# Altium footprint library LM3102.PcbLib: 3 footprints
Each footprint in its own frame and in the unit in brackets; x right, y up, seen from the top. Pads: shape width x height; smd on the part's side, far side on the other; paste and mask are expansions set on the pad; w line width, h text height; cw(c..) or ccw(c..) is an arc to the next point about the centre after c.
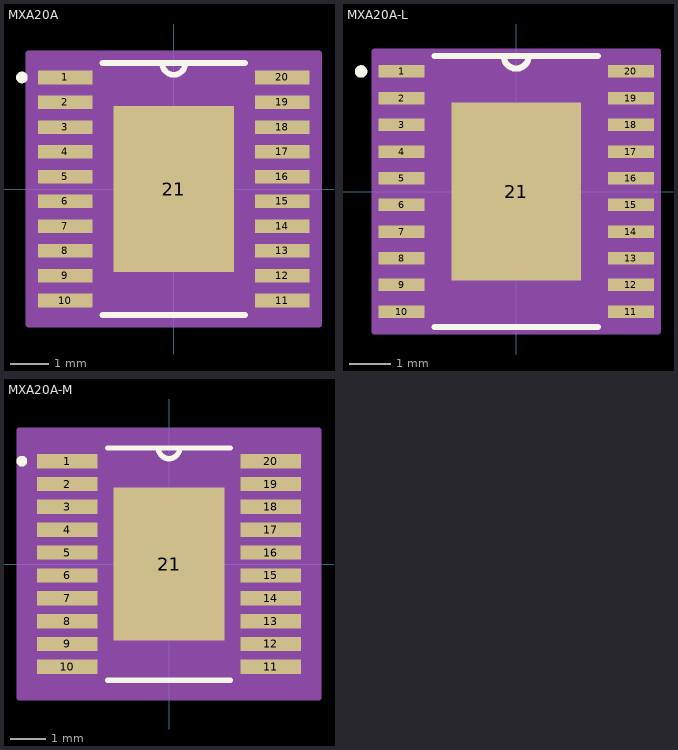
[diagram p0: the footprints below, top view; thin cyan lines are the x and y axes]

## MXA20A [mil]
pads (21):
  rect 56x14 smd: 1(-112,115.16) 2(-112,89.57) 3(-112,63.98) 4(-112,38.39) 5(-112,12.8) 6(-112,-12.8) 7(-112,-38.39) 8(-112,-63.98) 9(-112,-89.57) 10(-112,-115.16) 11(112,-115.16) 12(112,-89.57) 13(112,-63.98) 14(112,-38.39) 15(112,-12.8) 16(112,12.8) 17(112,38.39) 18(112,63.98) 19(112,89.57) 20(112,115.16)
  rect 124x171 smd: 21(0,0)
Top Overlay:
  circle w6: c-156.8,115.16 r3
  lines w6: -73.51,-130 73.51,-130 ; -73.51,130 73.51,130 ; -12,130 ccw(c0,130) 12,130
Mechanical 13:
  circle w0: c-156.8,115.16 r3
  lines w0: -12,130 ccw(c0,130) 12,130
Mechanical 15:
  region: 150,-140 -150,-140 -150,140 150,140
  lines w6: -150,-140 -150,140 150,140 150,-140 -150,-140
3D body: height 39.37, standoff 0, extent -126.39,-127.95 126.4,127.96

## MXA20A-L [mil]
pads (21):
  rect 44x12 smd: 1(-110,115.16) 2(-110,89.57) 3(-110,63.98) 4(-110,38.39) 5(-110,12.8) 6(-110,-12.8) 7(-110,-38.39) 8(-110,-63.98) 9(-110,-89.57) 10(-110,-115.16) 11(110,-115.16) 12(110,-89.57) 13(110,-63.98) 14(110,-38.39) 15(110,-12.8) 16(110,12.8) 17(110,38.39) 18(110,63.98) 19(110,89.57) 20(110,115.16)
  rect 124x171 smd: 21(0,0)
Top Overlay:
  circle w6: c-148.8,115.16 r3
  lines w6: -78.33,-130 78.33,-130 ; -78.33,130 78.33,130 ; -12,130 ccw(c0,130) 12,130
Mechanical 13:
  circle w0: c-148.8,115.16 r3
  lines w0: -12,130 ccw(c0,130) 12,130
Mechanical 15:
  region: 136,-134 -136,-134 -136,134 136,134
  lines w6: -136,-134 -136,134 136,134 136,-134 -136,-134
3D body: height 39.37, standoff 0, extent -126.39,-127.95 126.41,127.96

## MXA20A-M [mil]
pads (21):
  rect 68x16 smd: 1(-114,115.16) 2(-114,89.57) 3(-114,63.98) 4(-114,38.39) 5(-114,12.8) 6(-114,-12.8) 7(-114,-38.39) 8(-114,-63.98) 9(-114,-89.57) 10(-114,-115.16) 11(114,-115.16) 12(114,-89.57) 13(114,-63.98) 14(114,-38.39) 15(114,-12.8) 16(114,12.8) 17(114,38.39) 18(114,63.98) 19(114,89.57) 20(114,115.16)
  rect 124x171 smd: 21(0,0)
Top Overlay:
  circle w6: c-164.8,115.16 r3
  lines w6: -68.83,-130 68.83,-130 ; -68.83,130 68.83,130 ; -12,130 ccw(c0,130) 12,130
Mechanical 13:
  circle w0: c-164.8,115.16 r3
  lines w0: -12,130 ccw(c0,130) 12,130
Mechanical 15:
  region: 168,-150 -168,-150 -168,150 168,150
  lines w6: -168,-150 -168,150 168,150 168,-150 -168,-150
3D body: height 39.37, standoff 0, extent -126.39,-127.95 126.41,127.96